# EAGLE library part UCC27424QDRQ1 (library UCC27424QDRQ1)
Automotive Dual 4A High Speed Low-Side MOSFET Driver With Enable Source: Datasheet <http://www.ti.com/lit/gpn/ucc27424-q1>
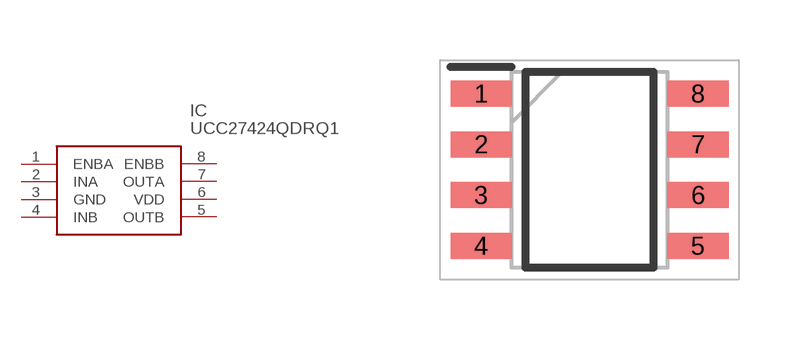
[diagram p0: symbol with the pads of SOIC127P600X175-8N; footprint SOIC127P600X175-8N]

Designator prefix IC

## UCC27424QDRQ1 (Description: Automotive Dual 4A High Speed Low-Side MOSFET Driver With Enable; Height: 1.75mm; Manufacturer_Name: Texas Instruments; Manufacturer_Part_Number: UCC27424QDRQ1; Mouser_Part_Number: 595-UCC27424QDRQ1; Mouser_Price-Stock: https://www.mouser.co.uk/ProductDetail/Texas-Instruments/UCC27424QDRQ1?qs=3WadRV20yGwTLMr0pUhVuw%3D%3D)  [SOIC127P600X175-8N]
1  ENBA
2  INA
3  GND
4  INB
5  OUTB
6  VDD
7  OUTA
8  ENBB

## Footprint SOIC127P600X175-8N (pad centres in mm)
D
smd 1.528 x 0.65: 1 -2.711,1.905; 2 -2.711,0.635; 3 -2.711,-0.635; 4 -2.711,-1.905; 5 2.711,-1.905; 6 2.711,-0.635; 7 2.711,0.635; 8 2.711,1.905